# Altium footprint library m68k.PcbLib: 35 footprints (part 1 of 3)
Each footprint in its own frame and in the unit in brackets; x right, y up, seen from the top. Pads: shape width x height; smd on the part's side, far side on the other; paste and mask are expansions set on the pad; w line width, h text height; cw(c..) or ccw(c..) is an arc to the next point about the centre after c.
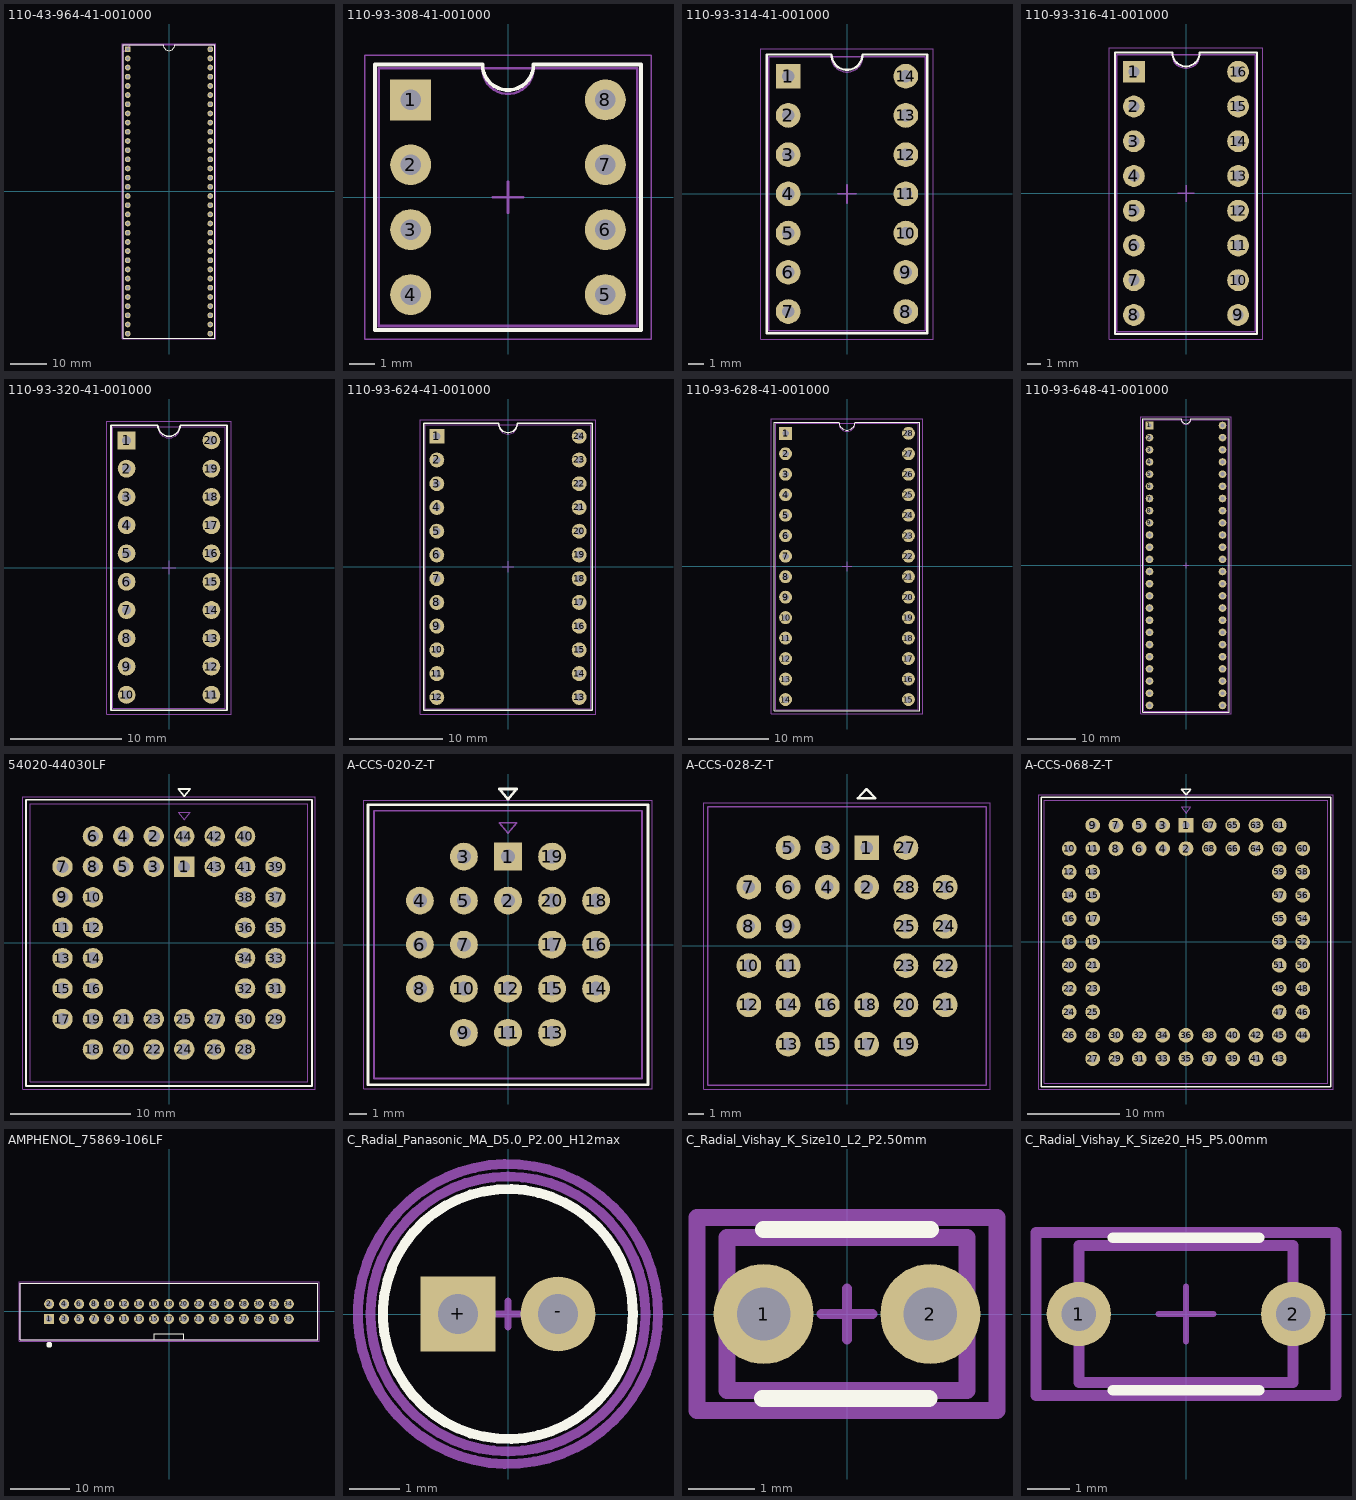
[diagram p0: the footprints below, top view; thin cyan lines are the x and y axes]

## 110-43-964-41-001000 [mm] "Mill-Max 110-43-964-41-001000, 64-position (2 x 32) DIP socket, screw-machine pin receptacles, 2.54 mm (.100\") pitch, 22.86 mm (.900\") row spacing, through hole. Body 81.2 x 25.3 mm per Mill-Max 110 series drawing. 64 plated 0.90 mm holes / 1.60 mm round pads; pad 1 square. Origin at body center, top view. Pin 1 top left, DIP numbering counter-clockwise. TopOverlay silkscreen, M2 component outline, M9 assembly, M11 designator, M15 courtyard."
pads (64):
  rect 1.6x1.6 hole 0.9 mask+0.075: 1(-11.43,39.37)
  round 1.6 hole 0.9 mask+0.075: 2(-11.43,36.83) 3(-11.43,34.29) 4(-11.43,31.75) 5(-11.43,29.21) 6(-11.43,26.67) 7(-11.43,24.13) 8(-11.43,21.59) 9(-11.43,19.05) 10(-11.43,16.51) 11(-11.43,13.97) 12(-11.43,11.43) 13(-11.43,8.89) 14(-11.43,6.35) 15(-11.43,3.81) 16(-11.43,1.27) 17(-11.43,-1.27) 18(-11.43,-3.81) 19(-11.43,-6.35) 20(-11.43,-8.89) 21(-11.43,-11.43) 22(-11.43,-13.97) 23(-11.43,-16.51) 24(-11.43,-19.05) 25(-11.43,-21.59) 26(-11.43,-24.13) 27(-11.43,-26.67) 28(-11.43,-29.21) 29(-11.43,-31.75) 30(-11.43,-34.29) 31(-11.43,-36.83) 32(-11.43,-39.37) 33(11.43,-39.37) 34(11.43,-36.83) 35(11.43,-34.29) 36(11.43,-31.75) 37(11.43,-29.21) 38(11.43,-26.67) 39(11.43,-24.13) 40(11.43,-21.59) 41(11.43,-19.05) 42(11.43,-16.51) 43(11.43,-13.97) 44(11.43,-11.43) 45(11.43,-8.89) 46(11.43,-6.35) 47(11.43,-3.81) 48(11.43,-1.27) 49(11.43,1.27) 50(11.43,3.81) 51(11.43,6.35) 52(11.43,8.89) 53(11.43,11.43) 54(11.43,13.97) 55(11.43,16.51) 56(11.43,19.05) 57(11.43,21.59) 58(11.43,24.13) 59(11.43,26.67) 60(11.43,29.21) 61(11.43,31.75) 62(11.43,34.29) 63(11.43,36.83) 64(11.43,39.37)
Top Overlay:
  lines w0.2: -12.65,-40.6 -12.65,40.6 -1.6,40.6 ccw(c0,40.6) 1.6,40.6 12.65,40.6 12.65,-40.6 -12.65,-40.6
Top Component Outline:
  lines w0.1: -12.65,-40.6 12.65,-40.6 12.65,40.6 -12.65,40.6 -12.65,-40.6
Top Assembly:
  lines w0.1: -12.65,-40.6 12.65,-40.6 12.65,40.6 -10.65,40.6 -12.65,38.6 -12.65,-40.6
Top Designator:
  text ".Designator" at -4.95,-0.75 h1.5
Top Courtyard:
  lines w0.05: -12.9,-40.85 12.9,-40.85 12.9,40.85 -12.9,40.85 -12.9,-40.85

## 110-93-308-41-001000 [mm] "Mill-Max 110 open-frame DIP socket; 8 pins; pitch 2.54mm; row 7.62mm; plated hole 0.80mm; pad 1.60mm; center origin"
height 4.191
pads (8):
  rect 1.6x1.6 hole 0.8 paste-2539.97 mask+0.1: 1(-3.81,3.81)
  round 1.6 hole 0.8 paste-2539.97 mask+0.1: 2(-3.81,1.27) 3(-3.81,-1.27) 4(-3.81,-3.81) 5(3.81,-3.81) 6(3.81,-1.27) 7(3.81,1.27) 8(3.81,3.81)
Top Overlay:
  lines w0.15: -5.205,-5.192 5.205,-5.192 5.205,5.192 1,5.192 cw(c0,5.192) -1,5.192 -5.205,5.192 -5.205,-5.192
Top Component Outline:
  lines w0.1: -5.055,-5.042 5.055,-5.042 5.055,5.042 -5.055,5.042 -5.055,-5.042
Top Assembly:
  lines w0.1: -5.055,-5.042 5.055,-5.042 5.055,5.042 1,5.042 cw(c0,5.042) -1,5.042 -5.055,5.042 -5.055,-5.042
Top Designator:
  text ".Designator" at -4.998,-0.333 h1
Top Courtyard:
  lines w0.05: -5.6,-5.55 5.6,-5.55 5.6,5.55 -5.6,5.55 -5.6,-5.55
Top Component Center:
  lines w0.1: -0.6,0 0.6,0 ; 0,-0.6 0,0.6

## 110-93-314-41-001000 [mm] "Mill-Max 110 open-frame DIP socket; 14 pins; pitch 2.54mm; row 7.62mm; plated hole 0.80mm; pad 1.60mm; center origin"
height 4.191
pads (14):
  rect 1.6x1.6 hole 0.8 paste-2539.97 mask+0.1: 1(-3.81,7.62)
  round 1.6 hole 0.8 paste-2539.97 mask+0.1: 2(-3.81,5.08) 3(-3.81,2.54) 4(-3.81,0) 5(-3.81,-2.54) 6(-3.81,-5.08) 7(-3.81,-7.62) 8(3.81,-7.62) 9(3.81,-5.08) 10(3.81,-2.54) 11(3.81,0) 12(3.81,2.54) 13(3.81,5.08) 14(3.81,7.62)
Top Overlay:
  lines w0.15: -5.205,-9.027 -5.205,9.027 -1,9.027 ccw(c0,9.027) 1,9.027 5.205,9.027 5.205,-9.027 -5.205,-9.027
Top Component Outline:
  lines w0.1: -5.055,-8.877 -5.055,8.877 5.055,8.877 5.055,-8.877 -5.055,-8.877
Top Assembly:
  lines w0.1: -5.055,-8.877 -5.055,8.877 -1,8.877 ccw(c0,8.877) 1,8.877 5.055,8.877 5.055,-8.877 -5.055,-8.877
Top Designator:
  text ".Designator" at -4.998,-0.333 h1
Top Courtyard:
  lines w0.05: -5.6,-9.4 -5.6,9.4 5.6,9.4 5.6,-9.4 -5.6,-9.4
Top Component Center:
  lines w0.1: -0.6,0 0.6,0 ; 0,-0.6 0,0.6

## 110-93-316-41-001000 [mm] "Mill-Max 110 open-frame DIP socket; 16 pins; pitch 2.54mm; row 7.62mm; plated hole 0.80mm; pad 1.60mm; center origin"
height 4.191
pads (16):
  rect 1.6x1.6 hole 0.8 paste-2539.97 mask+0.1: 1(-3.81,8.89)
  round 1.6 hole 0.8 paste-2539.97 mask+0.1: 2(-3.81,6.35) 3(-3.81,3.81) 4(-3.81,1.27) 5(-3.81,-1.27) 6(-3.81,-3.81) 7(-3.81,-6.35) 8(-3.81,-8.89) 9(3.81,-8.89) 10(3.81,-6.35) 11(3.81,-3.81) 12(3.81,-1.27) 13(3.81,1.27) 14(3.81,3.81) 15(3.81,6.35) 16(3.81,8.89)
Top Overlay:
  lines w0.15: -5.205,-10.285 -5.205,10.285 -1,10.285 ccw(c0,10.285) 1,10.285 5.205,10.285 5.205,-10.285 -5.205,-10.285
Top Component Outline:
  lines w0.1: -5.055,-10.135 -5.055,10.135 5.055,10.135 5.055,-10.135 -5.055,-10.135
Top Assembly:
  lines w0.1: -5.055,-10.135 -5.055,10.135 -1,10.135 ccw(c0,10.135) 1,10.135 5.055,10.135 5.055,-10.135 -5.055,-10.135
Top Designator:
  text ".Designator" at -4.998,-0.333 h1
Top Courtyard:
  lines w0.05: -5.6,-10.65 -5.6,10.65 5.6,10.65 5.6,-10.65 -5.6,-10.65
Top Component Center:
  lines w0.1: -0.6,0 0.6,0 ; 0,-0.6 0,0.6

## 110-93-320-41-001000 [mm] "Mill-Max 110 open-frame DIP socket; 20 pins; pitch 2.54mm; row 7.62mm; plated hole 0.80mm; pad 1.60mm; center origin"
height 4.191
pads (20):
  rect 1.6x1.6 hole 0.8 paste-2539.97 mask+0.1: 1(-3.81,11.43)
  round 1.6 hole 0.8 paste-2539.97 mask+0.1: 2(-3.81,8.89) 3(-3.81,6.35) 4(-3.81,3.81) 5(-3.81,1.27) 6(-3.81,-1.27) 7(-3.81,-3.81) 8(-3.81,-6.35) 9(-3.81,-8.89) 10(-3.81,-11.43) 11(3.81,-11.43) 12(3.81,-8.89) 13(3.81,-6.35) 14(3.81,-3.81) 15(3.81,-1.27) 16(3.81,1.27) 17(3.81,3.81) 18(3.81,6.35) 19(3.81,8.89) 20(3.81,11.43)
Top Overlay:
  lines w0.15: -5.205,-12.799 5.205,-12.799 5.205,12.799 1,12.799 cw(c0,12.799) -1,12.799 -5.205,12.799 -5.205,-12.799
Top Component Outline:
  lines w0.1: -5.055,-12.649 5.055,-12.649 5.055,12.649 -5.055,12.649 -5.055,-12.649
Top Assembly:
  lines w0.1: -5.055,-12.649 5.055,-12.649 5.055,12.649 1,12.649 cw(c0,12.649) -1,12.649 -5.055,12.649 -5.055,-12.649
Top Designator:
  text ".Designator" at -4.998,-0.333 h1
Top Courtyard:
  lines w0.05: -5.6,-13.15 5.6,-13.15 5.6,13.15 -5.6,13.15 -5.6,-13.15
Top Component Center:
  lines w0.1: -0.6,0 0.6,0 ; 0,-0.6 0,0.6

## 110-93-624-41-001000 [mm] "Mill-Max 110 open-frame DIP socket; 24 pins; pitch 2.54mm; row 15.24mm; plated hole 0.80mm; pad 1.60mm; center origin"
height 4.191
pads (24):
  rect 1.6x1.6 hole 0.8 paste-2539.97 mask+0.1: 1(-7.62,13.97)
  round 1.6 hole 0.8 paste-2539.97 mask+0.1: 2(-7.62,11.43) 3(-7.62,8.89) 4(-7.62,6.35) 5(-7.62,3.81) 6(-7.62,1.27) 7(-7.62,-1.27) 8(-7.62,-3.81) 9(-7.62,-6.35) 10(-7.62,-8.89) 11(-7.62,-11.43) 12(-7.62,-13.97) 13(7.62,-13.97) 14(7.62,-11.43) 15(7.62,-8.89) 16(7.62,-6.35) 17(7.62,-3.81) 18(7.62,-1.27) 19(7.62,1.27) 20(7.62,3.81) 21(7.62,6.35) 22(7.62,8.89) 23(7.62,11.43) 24(7.62,13.97)
Top Overlay:
  lines w0.15: -9.002,-15.352 9.002,-15.352 9.002,15.352 1,15.352 cw(c0,15.352) -1,15.352 -9.002,15.352 -9.002,-15.352
Top Component Outline:
  lines w0.1: -8.852,-15.202 8.852,-15.202 8.852,15.202 -8.852,15.202 -8.852,-15.202
Top Assembly:
  lines w0.1: -8.852,-15.202 8.852,-15.202 8.852,15.202 1,15.202 cw(c0,15.202) -1,15.202 -8.852,15.202 -8.852,-15.202
Top Designator:
  text ".Designator" at -4.998,-0.333 h1
Top Courtyard:
  lines w0.05: -9.4,-15.75 9.4,-15.75 9.4,15.75 -9.4,15.75 -9.4,-15.75
Top Component Center:
  lines w0.1: -0.6,0 0.6,0 ; 0,-0.6 0,0.6

## 110-93-628-41-001000 [mm] "Mill-Max 110 open-frame DIP socket; 28 pins; pitch 2.54mm; row 15.24mm; plated hole 0.80mm; pad 1.60mm; center origin"
height 4.191
pads (28):
  rect 1.6x1.6 hole 0.8 paste-2539.97 mask+0.1: 1(-7.62,16.51)
  round 1.6 hole 0.8 paste-2539.97 mask+0.1: 2(-7.62,13.97) 3(-7.62,11.43) 4(-7.62,8.89) 5(-7.62,6.35) 6(-7.62,3.81) 7(-7.62,1.27) 8(-7.62,-1.27) 9(-7.62,-3.81) 10(-7.62,-6.35) 11(-7.62,-8.89) 12(-7.62,-11.43) 13(-7.62,-13.97) 14(-7.62,-16.51) 15(7.62,-16.51) 16(7.62,-13.97) 17(7.62,-11.43) 18(7.62,-8.89) 19(7.62,-6.35) 20(7.62,-3.81) 21(7.62,-1.27) 22(7.62,1.27) 23(7.62,3.81) 24(7.62,6.35) 25(7.62,8.89) 26(7.62,11.43) 27(7.62,13.97) 28(7.62,16.51)
Top Overlay:
  lines w0.15: -9.002,-17.905 -9.002,17.905 -1,17.905 ccw(c0,17.905) 1,17.905 9.002,17.905 9.002,-17.905 -9.002,-17.905
Top Component Outline:
  lines w0.1: -8.852,-17.755 -8.852,17.755 8.852,17.755 8.852,-17.755 -8.852,-17.755
Top Assembly:
  lines w0.1: -8.852,-17.755 -8.852,17.755 -1,17.755 ccw(c0,17.755) 1,17.755 8.852,17.755 8.852,-17.755 -8.852,-17.755
Top Designator:
  text ".Designator" at -4.998,-0.333 h1
Top Courtyard:
  lines w0.05: -9.4,-18.3 -9.4,18.3 9.4,18.3 9.4,-18.3 -9.4,-18.3
Top Component Center:
  lines w0.1: -0.6,0 0.6,0 ; 0,-0.6 0,0.6

## 110-93-648-41-001000 [mm] "Mill-Max 110 open-frame DIP socket; 48 pins; pitch 2.54mm; row 15.24mm; plated hole 0.80mm; pad 1.60mm; center origin"
height 4.191
pads (48):
  rect 1.6x1.6 hole 0.8 paste-2539.97 mask+0.1: 1(-7.62,29.21)
  round 1.6 hole 0.8 paste-2539.97 mask+0.1: 2(-7.62,26.67) 3(-7.62,24.13) 4(-7.62,21.59) 5(-7.62,19.05) 6(-7.62,16.51) 7(-7.62,13.97) 8(-7.62,11.43) 9(-7.62,8.89) 10(-7.62,6.35) 11(-7.62,3.81) 12(-7.62,1.27) 13(-7.62,-1.27) 14(-7.62,-3.81) 15(-7.62,-6.35) 16(-7.62,-8.89) 17(-7.62,-11.43) 18(-7.62,-13.97) 19(-7.62,-16.51) 20(-7.62,-19.05) 21(-7.62,-21.59) 22(-7.62,-24.13) 23(-7.62,-26.67) 24(-7.62,-29.21) 25(7.62,-29.21) 26(7.62,-26.67) 27(7.62,-24.13) 28(7.62,-21.59) 29(7.62,-19.05) 30(7.62,-16.51) 31(7.62,-13.97) 32(7.62,-11.43) 33(7.62,-8.89) 34(7.62,-6.35) 35(7.62,-3.81) 36(7.62,-1.27) 37(7.62,1.27) 38(7.62,3.81) 39(7.62,6.35) 40(7.62,8.89) 41(7.62,11.43) 42(7.62,13.97) 43(7.62,16.51) 44(7.62,19.05) 45(7.62,21.59) 46(7.62,24.13) 47(7.62,26.67) 48(7.62,29.21)
Top Overlay:
  lines w0.15: -9.002,-30.605 -9.002,30.605 -1,30.605 ccw(c0,30.605) 1,30.605 9.002,30.605 9.002,-30.605 -9.002,-30.605
Top Component Outline:
  lines w0.1: -8.852,-30.455 -8.852,30.455 8.852,30.455 8.852,-30.455 -8.852,-30.455
Top Assembly:
  lines w0.1: -8.852,-30.455 -8.852,30.455 -1,30.455 ccw(c0,30.455) 1,30.455 8.852,30.455 8.852,-30.455 -8.852,-30.455
Top Designator:
  text ".Designator" at -4.998,-0.333 h1
Top Courtyard:
  lines w0.05: -9.4,-31 -9.4,31 9.4,31 9.4,-31 -9.4,-31
Top Component Center:
  lines w0.1: -0.6,0 0.6,0 ; 0,-0.6 0,0.6

## 54020-44030LF [mm] "FCI / Amphenol 54020-44030LF (PLCC-44P-T), PLCC-44 THT DIP socket; drawing 54020 rev K sheet 1/2. From drawing: body A x B = 23.18 x 23.18 mm, 2.54 mm grid, C = D = 12.70 mm inner hole ring, 44 plated 1.00 +0.10/-0.00 mm holes, height 8.15 mm above seating plane. Derived, not illustrated: the sheet's PCB-layout view is drawn for 68 positions, so the 44 grid was derived from C/D plus the 2.54 grid - 8 x 8, two-deep band, four outer corners omitted, outer ring +/-8.89. Assumed: JEDEC PLCC numbering (pin 1 contact at top centre, counter-clockwise, top view) with the staggered tail rule - contacts on the grid drop straight to the outer ring, contacts between grid columns jog 1.27 mm in the side's clockwise-tangent direction onto the inner ring; pad 1 therefore sits at (1.27, 6.35), not at top centre. Drawing carries no pin numbers; map matches KiCad PLCC-44_THT-Socket on all 44 pads. Chosen: 1.70 mm round pads (square on pin 1), 0.075 mm mask expansion. Origin at body centre. M2 component outline, M9 assembly, M11 designator, M15 courtyard."
height 8.15
pads (44):
  rect 1.7x1.7 hole 1 mask+0.075: 1(1.27,6.35)
  round 1.7 hole 1 mask+0.075: 2(-1.27,8.89) 3(-1.27,6.35) 4(-3.81,8.89) 5(-3.81,6.35) 6(-6.35,8.89) 7(-8.89,6.35) 8(-6.35,6.35) 9(-8.89,3.81) 10(-6.35,3.81) 11(-8.89,1.27) 12(-6.35,1.27) 13(-8.89,-1.27) 14(-6.35,-1.27) 15(-8.89,-3.81) 16(-6.35,-3.81) 17(-8.89,-6.35) 18(-6.35,-8.89) 19(-6.35,-6.35) 20(-3.81,-8.89) 21(-3.81,-6.35) 22(-1.27,-8.89) 23(-1.27,-6.35) 24(1.27,-8.89) 25(1.27,-6.35) 26(3.81,-8.89) 27(3.81,-6.35) 28(6.35,-8.89) 29(8.89,-6.35) 30(6.35,-6.35) 31(8.89,-3.81) 32(6.35,-3.81) 33(8.89,-1.27) 34(6.35,-1.27) 35(8.89,1.27) 36(6.35,1.27) 37(8.89,3.81) 38(6.35,3.81) 39(8.89,6.35) 40(6.35,8.89) 41(6.35,6.35) 42(3.81,8.89) 43(3.81,6.35) 44(1.27,8.89)
Top Overlay:
  lines w0.15: -11.94,-11.94 11.94,-11.94 11.94,11.94 -11.94,11.94 -11.94,-11.94 ; 0.77,12.84 1.77,12.84 1.27,12.24 0.77,12.84
  text ".Designator" at -4.125,13.9 h1.25
Top Component Outline:
  lines w0.1: -11.59,-11.59 11.59,-11.59 11.59,11.59 -11.59,11.59 -11.59,-11.59
Top Assembly:
  lines w0.1: -11.59,-11.59 11.59,-11.59 11.59,11.59 -11.59,11.59 -11.59,-11.59 ; 0.77,10.89 1.77,10.89 1.27,10.29 0.77,10.89
Top Designator:
  text ".Designator" at -4.95,-0.75 h1.5
Top Courtyard:
  lines w0.05: -12.19,-12.19 12.19,-12.19 12.19,12.19 -12.19,12.19 -12.19,-12.19

## A-CCS-020-Z-T [mm] "Assmann WSW A-CCS 020-Z-T, PLCC-20 THT socket; drawing ASS 0981 CO rev11 sheet 1/2. From drawing: body 15.45 x 15.45 mm, 2.54 mm PCB grid, 20 plated 0.80 mm holes, max height 8.21 mm. Chosen (not on drawing): 1.60 mm round pads (square on pin 1), 0.075 mm mask expansion. Pin 1 top centre, top view, origin at body centre; JEDEC PLCC counter-clockwise numbering (drawing shows no pin numbers). M2 component outline, M9 assembly, M11 designator, M15 courtyard."
height 8.21
pads (20):
  rect 1.6x1.6 hole 0.8 mask+0.075: 1(0,5.08)
  round 1.6 hole 0.8 mask+0.075: 2(0,2.54) 3(-2.54,5.08) 4(-5.08,2.54) 5(-2.54,2.54) 6(-5.08,0) 7(-2.54,0) 8(-5.08,-2.54) 9(-2.54,-5.08) 10(-2.54,-2.54) 11(0,-5.08) 12(0,-2.54) 13(2.54,-5.08) 14(5.08,-2.54) 15(2.54,-2.54) 16(5.08,0) 17(2.54,0) 18(5.08,2.54) 19(2.54,5.08) 20(2.54,2.54)
Top Overlay:
  lines w0.15: -8.075,-8.075 8.075,-8.075 8.075,8.075 -8.075,8.075 -8.075,-8.075 ; -0.5,8.975 0.5,8.975 0,8.375 -0.5,8.975
  text ".Designator" at -4.125,10 h1.25
Top Component Outline:
  lines w0.1: -7.725,-7.725 7.725,-7.725 7.725,7.725 -7.725,7.725 -7.725,-7.725
Top Assembly:
  lines w0.1: -7.725,-7.725 7.725,-7.725 7.725,7.725 -7.725,7.725 -7.725,-7.725 ; -0.5,7.025 0.5,7.025 0,6.425 -0.5,7.025
Top Designator:
  text ".Designator" at -4.95,-0.75 h1.5
Top Courtyard:
  lines w0.05: -8.325,-8.325 8.325,-8.325 8.325,8.325 -8.325,8.325 -8.325,-8.325

## A-CCS-028-Z-T [mm] "ASSMANN WSW 28-contact PLCC THT socket; ASS 0981 CO rev11 sheet 2. 18 x 18 mm body; 7.62 mm inner grid span; 2.54 mm tail pitch. Numbering assumes pin 1 at top near center and counterclockwise sequence; source does not label the tails. Copper pads 1.60 mm are a layout choice; drawing specifies 0.80 mm drill only."
height 8.28
pads (28):
  rect 1.6x1.6 hole 0.8 paste-2539.97 mask+0.075: 1(1.27,6.35)
  round 1.6 hole 0.8 paste-2539.97 mask+0.075: 2(1.27,3.81) 3(-1.27,6.35) 4(-1.27,3.81) 5(-3.81,6.35) 6(-3.81,3.81) 7(-6.35,3.81) 8(-6.35,1.27) 9(-3.81,1.27) 10(-6.35,-1.27) 11(-3.81,-1.27) 12(-6.35,-3.81) 13(-3.81,-6.35) 14(-3.81,-3.81) 15(-1.27,-6.35) 16(-1.27,-3.81) 17(1.27,-6.35) 18(1.27,-3.81) 19(3.81,-6.35) 20(3.81,-3.81) 21(6.35,-3.81) 22(6.35,-1.27) 23(3.81,-1.27) 24(6.35,1.27) 25(3.81,1.27) 26(6.35,3.81) 27(3.81,6.35) 28(3.81,3.81)
Top Overlay:
  lines w0.15: 0.7,9.55 1.84,9.55 1.27,10.15 0.7,9.55
  text ".Designator" at 0,11 h1.25
Top Component Outline:
  lines w0.1: -9,-9 -9,9 9,9 9,-9 -9,-9
Top Assembly:
  lines w0.1: -9,-9 -9,9 9,9 9,-9 -9,-9
Top Courtyard:
  lines w0.05: -9.25,-9.25 -9.25,9.25 9.25,9.25 9.25,-9.25 -9.25,-9.25

## A-CCS-068-Z-T [mm] "Assmann A-CCS 068-Z-T, PLCC-68 THT socket for MC68EC000; ASS 0981 CO rev11; body 30.80 x 30.80 mm; 2.54 mm PCB grid; 68 plated 0.80 mm holes / 1.60 mm pads; pin 1 top center, top view; M2 component outline, M9 assembly, M11 designator, M15 courtyard; user component layer pairs; maximum height 8.43 mm."
height 8.43
pads (68):
  rect 1.6x1.6 hole 0.8 mask+0.075: 1(0,12.7)
  round 1.6 hole 0.8 mask+0.075: 2(0,10.16) 3(-2.54,12.7) 4(-2.54,10.16) 5(-5.08,12.7) 6(-5.08,10.16) 7(-7.62,12.7) 8(-7.62,10.16) 9(-10.16,12.7) 10(-12.7,10.16) 11(-10.16,10.16) 12(-12.7,7.62) 13(-10.16,7.62) 14(-12.7,5.08) 15(-10.16,5.08) 16(-12.7,2.54) 17(-10.16,2.54) 18(-12.7,0) 19(-10.16,0) 20(-12.7,-2.54) 21(-10.16,-2.54) 22(-12.7,-5.08) 23(-10.16,-5.08) 24(-12.7,-7.62) 25(-10.16,-7.62) 26(-12.7,-10.16) 27(-10.16,-12.7) 28(-10.16,-10.16) 29(-7.62,-12.7) 30(-7.62,-10.16) 31(-5.08,-12.7) 32(-5.08,-10.16) 33(-2.54,-12.7) 34(-2.54,-10.16) 35(0,-12.7) 36(0,-10.16) 37(2.54,-12.7) 38(2.54,-10.16) 39(5.08,-12.7) 40(5.08,-10.16) 41(7.62,-12.7) 42(7.62,-10.16) 43(10.16,-12.7) 44(12.7,-10.16) 45(10.16,-10.16) 46(12.7,-7.62) 47(10.16,-7.62) 48(12.7,-5.08) 49(10.16,-5.08) 50(12.7,-2.54) 51(10.16,-2.54) 52(12.7,0) 53(10.16,0) 54(12.7,2.54) 55(10.16,2.54) 56(12.7,5.08) 57(10.16,5.08) 58(12.7,7.62) 59(10.16,7.62) 60(12.7,10.16) 61(10.16,12.7) 62(10.16,10.16) 63(7.62,12.7) 64(7.62,10.16) 65(5.08,12.7) 66(5.08,10.16) 67(2.54,12.7) 68(2.54,10.16)
Top Overlay:
  lines w0.15: -15.75,-15.75 15.75,-15.75 15.75,15.75 -15.75,15.75 -15.75,-15.75 ; -0.5,16.65 0.5,16.65 0,16.05 -0.5,16.65
  text ".Designator" at 0,17.7 h1.25
Top Component Outline:
  lines w0.1: -15.4,-15.4 15.4,-15.4 15.4,15.4 -15.4,15.4 -15.4,-15.4
Top Assembly:
  lines w0.1: -15.4,-15.4 15.4,-15.4 15.4,15.4 -15.4,15.4 -15.4,-15.4 ; -0.5,14.7 0.5,14.7 0,14 -0.5,14.7
Top Designator:
  text ".Designator" at 0,0 h1.5
Top Courtyard:
  lines w0.05: -16,-16 16,-16 16,16 -16,16 -16,-16
3D body "A-CCS 068-Z-T--3DModel-STEP-56544.STEP": height 8.3, standoff -3.4, extent -15.525,-15.525 15.525,15.525

## AMPHENOL_75869-106LF [mm] "Amphenol FCI Quickie 75869-106LF shrouded header, low profile, vertical THT, 2x17 = 34 pos, 2.54 mm. Top view; origin = centre of pin field. Odd pins row at -Y, pin 1 at -X; polarization key slot on odd-row side."
height 9.57
pads (34):
  rect 1.7x1.7 hole 1.02 mask+0.075: 1(-20.32,-1.27)
  round 1.7 hole 1.02 mask+0.075: 2(-20.32,1.27) 3(-17.78,-1.27) 4(-17.78,1.27) 5(-15.24,-1.27) 6(-15.24,1.27) 7(-12.7,-1.27) 8(-12.7,1.27) 9(-10.16,-1.27) 10(-10.16,1.27) 11(-7.62,-1.27) 12(-7.62,1.27) 13(-5.08,-1.27) 14(-5.08,1.27) 15(-2.54,-1.27) 16(-2.54,1.27) 17(0,-1.27) 18(0,1.27) 19(2.54,-1.27) 20(2.54,1.27) 21(5.08,-1.27) 22(5.08,1.27) 23(7.62,-1.27) 24(7.62,1.27) 25(10.16,-1.27) 26(10.16,1.27) 27(12.7,-1.27) 28(12.7,1.27) 29(15.24,-1.27) 30(15.24,1.27) 31(17.78,-1.27) 32(17.78,1.27) 33(20.32,-1.27) 34(20.32,1.27)
Top Overlay:
  circle w0.5: c-20.32,-5.65 r0.25
  lines w0.2: -2.54,-4.775 -2.54,-3.775 2.54,-3.775 2.54,-4.775 ; -25.195,-4.775 -25.195,4.775 25.195,4.775 25.195,-4.775 -25.195,-4.775
  text ".Designator" at -3.96,5.4 h1.2
Top Component Outline:
  lines w0.1: -25.195,-4.775 -25.195,4.775 25.195,4.775 25.195,-4.775 -25.195,-4.775
Top Assembly:
  lines w0.1: -25.195,-4.775 -25.195,4.775 25.195,4.775 25.195,-4.775 -25.195,-4.775
Top Designator:
  text ".Designator" at -3.96,-0.6 h1.2
Top Courtyard:
  lines w0.05: -25.445,-5.025 -25.445,5.025 25.445,5.025 25.445,-5.025 -25.445,-5.025
3D body: height 9.57, standoff 0, extent -25.195,-4.775 25.195,4.775

## C_Radial_Panasonic_MA_D5.0_P2.00_H12max [mm]
pads (2):
  rect 1.5x1.5 hole 0.8: +(-1,0)
  round 1.5 hole 0.8: -(1,0)
Top Overlay:
  circle w0.2: c0,0 r2.5
Top Component Outline:
  circle w0.2: c0,0 r2.75
Top Assembly:
  circle w0.2: c0,0 r2.75
Top Designator:
  text ".Designator" at 0.254,0.762 h1.52
Top Courtyard:
  circle w0.2: c0,0 r3
Top Component Center:
  lines w0.15: -0.254,0 0.254,0 ; 0,-0.254 0,0.254
3D body: height 11, standoff 0, extent -2.5,-2.5 2.5,2.5

## C_Radial_Vishay_K_Size10_L2_P2.50mm [mm]
pads (2):
  round 1.5 hole 0.8: 1(-1.25,0) 2(1.25,0)
Top Overlay:
  lines w0.254: -1.27,-1.27 1.23,-1.27 ; -1.25,1.27 1.25,1.27
Top Component Outline:
  lines w0.254: -1.8,-1.15 1.8,-1.15 1.8,1.15 -1.8,1.15 -1.8,-1.15
Top Assembly:
  lines w0.254: -1.8,-1.15 1.8,-1.15 1.8,1.15 -1.8,1.15 -1.8,-1.15
Top Designator:
  text ".Designator" at 0.254,0.762 h1.52
Top Courtyard:
  lines w0.254: -2.25,-1.45 2.25,-1.45 2.25,1.45 -2.25,1.45 -2.25,-1.45
Top Component Center:
  lines w0.15: -0.381,0 0.381,0 ; 0,-0.381 0,0.381

## C_Radial_Vishay_K_Size20_H5_P5.00mm [mm]
pads (2):
  round 1.5 hole 0.8: 1(-2.5,0) 2(2.5,0)
Top Overlay:
  lines w0.254: -1.7,-1.778 1.7,-1.778 ; -1.7,1.778 1.7,1.778
Top Component Outline:
  lines w0.254: -2.5,-1.6 2.5,-1.6 2.5,1.6 -2.5,1.6 -2.5,-1.6
Top Assembly:
  lines w0.254: -2.5,-1.6 2.5,-1.6 2.5,1.6 -2.5,1.6 -2.5,-1.6
Top Designator:
  text ".Designator" at 0.254,0.762 h1.52
Top Courtyard:
  lines w0.254: -3.5,-1.9 3.5,-1.9 3.5,1.9 -3.5,1.9 -3.5,-1.9
Top Component Center:
  lines w0.15: -0.635,0 0.635,0 ; 0,-0.635 0,0.635